# Altium schematic symbol library ESP8266EX.SchLib: 1 symbol
Pins are listed as number, name and electrical type; pins without a type are passive.

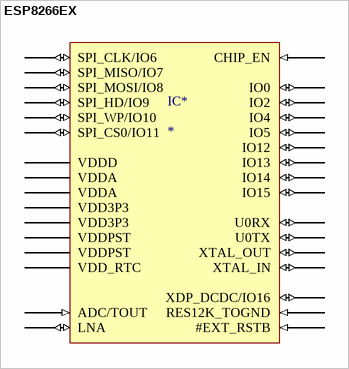
[diagram p0: symbol ESP8266EX]

## ESP8266EX
designator IC*
footprint ESP8266EX (QFN, 32-Leads, Body 5.00x5.00mm, Pitch 0.50mm, Thermal Pad 3.70x3.70mm, IPC Medium Density)
pins: 1 VDDA, 2 LNA (io), 3 VDD3P3, 4 VDD3P3, 5 VDD_RTC, 6 ADC/TOUT (in), 7 CHIP_EN (in), 8 XDP_DCDC/IO16 (io), 9 IO14 (io), 10 IO12 (io), 11 VDDPST, 12 IO13 (io), 13 IO15 (io), 14 IO2 (io), 15 IO0 (io), 16 IO4 (io), 17 VDDPST, 18 SPI_HD/IO9 (io), 19 SPI_WP/IO10 (io), 20 SPI_CS0/IO11 (io), 21 SPI_CLK/IO6 (io), 22 SPI_MISO/IO7 (io), 23 SPI_MOSI/IO8 (io), 24 IO5 (io), 25 U0RX (io), 26 U0TX (io), 27 XTAL_OUT (io), 28 XTAL_IN (io), 29 VDDD, 30 VDDA, 31 RES12K_TOGND (in), 32 #EXT_RSTB (in)